# Altium footprint library QFP.PcbLib: 8 footprints
Each footprint in its own frame and in the unit in brackets; x right, y up, seen from the top. Pads: shape width x height; smd on the part's side, far side on the other; paste and mask are expansions set on the pad; w line width, h text height; cw(c..) or ccw(c..) is an arc to the next point about the centre after c.
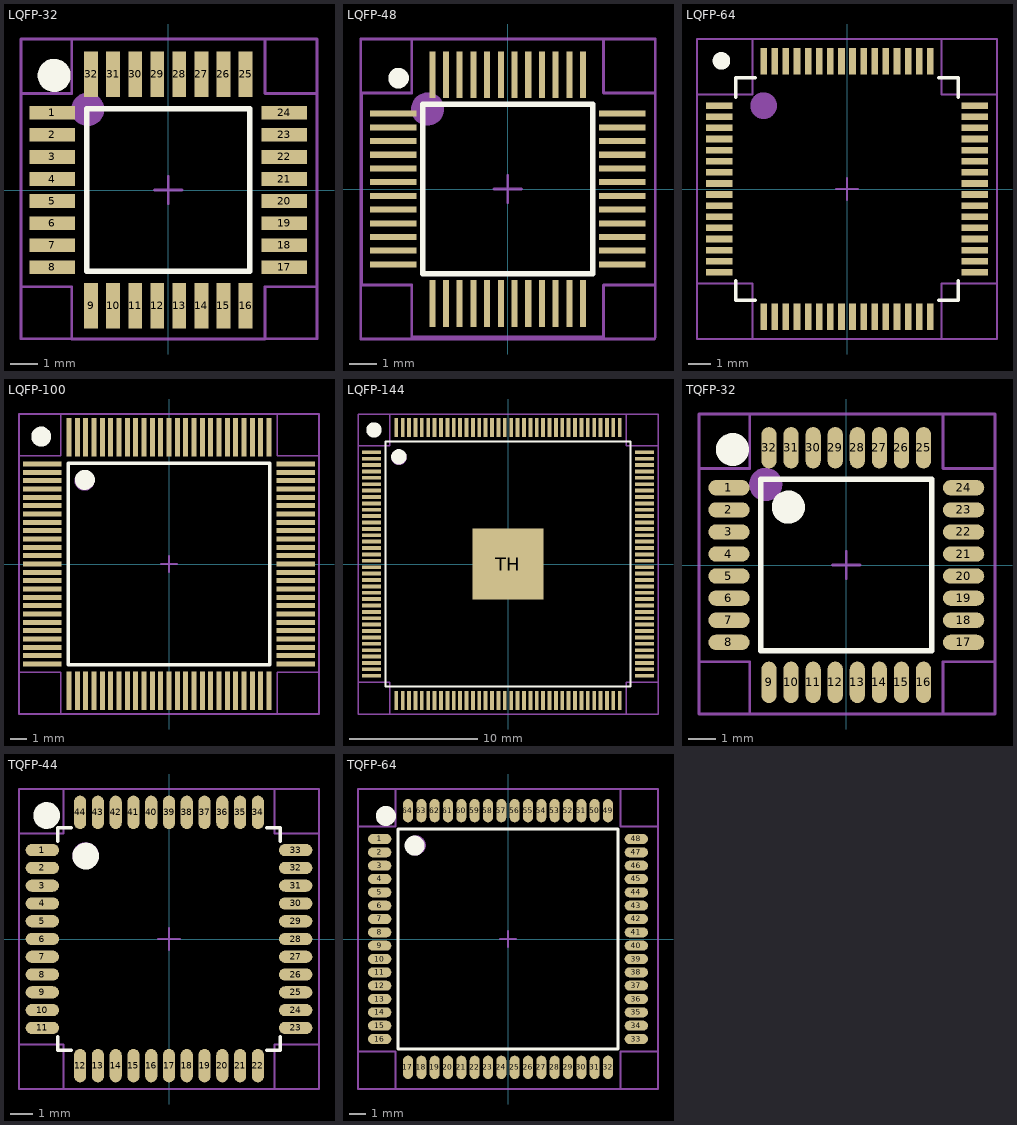
[diagram p0: the footprints below, top view; thin cyan lines are the x and y axes]

## LQFP-32 [mm] "Thin QFP, 32-Leads, Body 7x7mm, Pitch 0.8mm, IPC Medium Density"
height 1.6
pads (32):
  rect 1.65x0.5 smd: 1(-4.2,2.8) 2(-4.2,2) 3(-4.2,1.2) 4(-4.2,0.4) 5(-4.2,-0.4) 6(-4.2,-1.2) 7(-4.2,-2) 8(-4.2,-2.8) 17(4.2,-2.8) 18(4.2,-2) 19(4.2,-1.2) 20(4.2,-0.4) 21(4.2,0.4) 22(4.2,1.2) 23(4.2,2) 24(4.2,2.8)
  rect 0.5x1.65 smd: 9(-2.8,-4.2) 10(-2,-4.2) 11(-1.2,-4.2) 12(-0.4,-4.2) 13(0.4,-4.2) 14(1.2,-4.2) 15(2,-4.2) 16(2.8,-4.2) 25(2.8,4.2) 26(2,4.2) 27(1.2,4.2) 28(0.4,4.2) 29(-0.4,4.2) 30(-1.2,4.2) 31(-2,4.2) 32(-2.8,4.2)
Top Overlay:
  circle w0.6: c-4.135,4.154 r0.3
  lines w0.2: -2.95,-2.95 2.95,-2.95 2.95,2.95 -2.95,2.95 -2.95,-2.95
Top Assembly:
  circle w0.6: c-2.92,2.921 r0.3
  lines w0.1: -0.5,0 0.5,0 ; 0,-0.5 0,0.5 ; -3.038,-5.391 -3.038,-5.391 ; -3.038,-5.391 5.385,-5.391 5.385,3.5 5.385,5.472 -3.5,5.472 -5.334,5.472 -5.334,-5.391 -3.038,-5.391
Top Courtyard (Mech15):
  lines w0.1: -5.334,-3.5 -5.334,3.5 -3.5,3.5 -3.5,5.472 3.5,5.472 3.5,3.5 5.385,3.5 5.385,-3.5 3.5,-3.5 3.5,-5.397 -3.5,-5.397 -3.5,-4.77 -3.5,-3.5 -5.334,-3.5
3D body "TQFP32.step": height 1, standoff -0.15, extent -4.512,-4.512 4.512,4.512

## LQFP-48 [mm] "48-Pin Thin Quad Flat Pack 0.5 mm Pitch, IPC High Density"
height 1.6
pads (48):
  rect 1.7x0.22 smd mask+0.05: 1(-4.175,2.75) 2(-4.175,2.25) 3(-4.175,1.75) 4(-4.175,1.25) 5(-4.175,0.75) 6(-4.175,0.25) 7(-4.175,-0.25) 8(-4.175,-0.75) 9(-4.175,-1.25) 10(-4.175,-1.75) 11(-4.175,-2.25) 12(-4.175,-2.75)
  rect 0.22x1.7 smd mask+0.05: 13(-2.75,-4.175) 14(-2.25,-4.175) 15(-1.75,-4.175) 16(-1.25,-4.175) 17(-0.75,-4.175) 18(-0.25,-4.175) 19(0.25,-4.175) 20(0.75,-4.175) 21(1.25,-4.175) 23(2.25,-4.175) 24(2.75,-4.175) 37(2.75,4.175) 38(2.25,4.175) 39(1.75,4.175) 40(1.25,4.175) 41(0.75,4.175) 42(0.25,4.175) 43(-0.25,4.175) 44(-0.75,4.175) 45(-1.25,4.175) 46(-1.75,4.175) 47(-2.25,4.175) 48(-2.75,4.175)
  rect 0.22x1.7 smd paste+0 mask+0.05: 22(1.75,-4.175)
  rect 1.7x0.22 smd paste+0 mask+0.05: 25(4.175,-2.75) 26(4.175,-2.25) 27(4.175,-1.75) 28(4.175,-1.25) 29(4.175,-0.75) 30(4.175,-0.25) 31(4.175,0.25) 32(4.175,0.75) 33(4.175,1.25) 34(4.175,1.75) 35(4.175,2.25) 36(4.175,2.75)
Top Overlay:
  circle w0.5: c-3.982,4.044 r0.125
  lines w0.2: -3.1,-3.1 -3.1,3.1 3.1,3.1 3.1,-3.1 -3.1,-3.1
Top Assembly:
  circle w0.6: c-2.92,2.921 r0.3
  lines w0.1: -5.362,5.472 -5.362,5.398 -5.362,-5.472 -3.476,-5.472 3.524,-5.472 5.357,-5.472 ; -5.334,5.472 -3.5,5.472 3.5,5.472 5.385,5.472 5.385,-5.397 ; -0.5,0 0.5,0 ; 0,-0.5 0,0.5
Top Courtyard (Mech15):
  lines w0.1: -5.334,-3.5 -5.334,3.5 -3.5,3.5 -3.5,5.472 3.5,5.472 3.5,3.5 5.385,3.5 5.385,-3.5 3.5,-3.5 3.5,-5.397 -3.5,-5.397 -3.5,-4.77 -3.5,-3.5 -5.334,-3.5
3D body "LQFP48.step": height 1.5, standoff 0, extent -4.5,-4.5 4.5,4.5

## LQFP-64 [mm]
height 1.3
pads (64):
  rect 1.2x0.3 smd mask+0.05: 1(-5.75,3.75) 2(-5.75,3.25) 3(-5.75,2.75) 4(-5.75,2.25) 5(-5.75,1.75) 6(-5.75,1.25) 7(-5.75,0.75) 8(-5.75,0.25) 9(-5.75,-0.25) 10(-5.75,-0.75) 11(-5.75,-1.25) 12(-5.75,-1.75) 13(-5.75,-2.25) 14(-5.75,-2.75) 15(-5.75,-3.25) 16(-5.75,-3.75) 33(5.75,-3.75) 34(5.75,-3.25) 35(5.75,-2.75) 36(5.75,-2.25) 37(5.75,-1.75) 38(5.75,-1.25) 39(5.75,-0.75) 40(5.75,-0.25) 41(5.75,0.25) 42(5.75,0.75) 43(5.75,1.25) 44(5.75,1.75) 45(5.75,2.25) 46(5.75,2.75) 47(5.75,3.25) 48(5.75,3.75)
  rect 0.3x1.2 smd mask+0.05: 17(-3.75,-5.75) 18(-3.25,-5.75) 19(-2.75,-5.75) 20(-2.25,-5.75) 21(-1.75,-5.75) 22(-1.25,-5.75) 23(-0.75,-5.75) 24(-0.25,-5.75) 25(0.25,-5.75) 26(0.75,-5.75) 27(1.25,-5.75) 28(1.75,-5.75) 29(2.25,-5.75) 30(2.75,-5.75) 31(3.25,-5.75) 32(3.75,-5.75) 49(3.75,5.75) 50(3.25,5.75) 51(2.75,5.75) 52(2.25,5.75) 53(1.75,5.75) 54(1.25,5.75) 55(0.75,5.75) 56(0.25,5.75) 57(-0.25,5.75) 58(-0.75,5.75) 59(-1.25,5.75) 60(-1.75,5.75) 61(-2.25,5.75) 62(-2.75,5.75) 63(-3.25,5.75) 64(-3.75,5.75)
Top Overlay:
  circle w0.5: c-5.65,5.767 r0.145
  lines w0.15: -5,-4.125 -5,-5 -4.125,-5 ; -5,4.125 -5,5 -4.125,5 ; 4.125,-5 5,-5 5,-4.125 ; 4.125,5 5,5 5,4.125
Top Assembly:
  circle w0.6: c-3.75,3.75 r0.3
  lines w0.1: -0.5,0 0.5,0 ; 0,-0.5 0,0.5 ; -6.75,-6.75 4.25,-6.75 6.75,-6.75 6.75,6.75 -4.25,6.75 -6.75,6.75 -6.75,-6.75
Top Courtyard (Mech15):
  lines w0.1: -6.75,-4.25 -6.75,4.25 -4.25,4.25 -4.25,6.75 4.25,6.75 4.25,4.25 6.75,4.25 6.75,-4.25 5.52,-4.25 4.25,-4.25 4.25,-6.75 -4.25,-6.75 -4.25,-4.25 -6.75,-4.25
3D body "LQFP-64.STEP": height 1.56, standoff 0, extent -6,-6 6,6

## LQFP-100 [mm] "SQFP, 100-Leads, Body 16,7x16,7mm (max), Pitch 0,50mm, IPC Medium Density"
height 2.45
pads (100):
  rect 2.3x0.3 smd: 1(-7.6,6) 2(-7.6,5.5) 3(-7.6,5) 4(-7.6,4.5) 5(-7.6,4) 6(-7.6,3.5) 7(-7.6,3) 8(-7.6,2.5) 9(-7.6,2) 10(-7.6,1.5) 11(-7.6,1) 12(-7.6,0.5) 13(-7.6,0) 14(-7.6,-0.5) 15(-7.6,-1) 16(-7.6,-1.5) 17(-7.6,-2) 18(-7.6,-2.5) 19(-7.6,-3) 20(-7.6,-3.5) 21(-7.6,-4) 22(-7.6,-4.5) 23(-7.6,-5) 24(-7.6,-5.5) 25(-7.6,-6) 51(7.6,-6) 52(7.6,-5.5) 53(7.6,-5) 54(7.6,-4.5) 55(7.6,-4) 56(7.6,-3.5) 57(7.6,-3) 58(7.6,-2.5) 59(7.6,-2) 60(7.6,-1.5) 61(7.6,-1) 62(7.6,-0.5) 63(7.6,0) 64(7.6,0.5) 65(7.6,1) 66(7.6,1.5) 67(7.6,2) 68(7.6,2.5) 69(7.6,3) 70(7.6,3.5) 71(7.6,4) 72(7.6,4.5) 73(7.6,5) 74(7.6,5.5) 75(7.6,6)
  rect 0.3x2.3 smd: 26(-6,-7.6) 27(-5.5,-7.6) 28(-5,-7.6) 29(-4.5,-7.6) 30(-4,-7.6) 31(-3.5,-7.6) 32(-3,-7.6) 33(-2.5,-7.6) 34(-2,-7.6) 35(-1.5,-7.6) 36(-1,-7.6) 37(-0.5,-7.6) 38(0,-7.6) 39(0.5,-7.6) 40(1,-7.6) 41(1.5,-7.6) 42(2,-7.6) 43(2.5,-7.6) 44(3,-7.6) 45(3.5,-7.6) 46(4,-7.6) 47(4.5,-7.6) 48(5,-7.6) 49(5.5,-7.6) 50(6,-7.6) 76(6,7.6) 77(5.5,7.6) 78(5,7.6) 79(4.5,7.6) 80(4,7.6) 81(3.5,7.6) 82(3,7.6) 83(2.5,7.6) 84(2,7.6) 85(1.5,7.6) 86(1,7.6) 87(0.5,7.6) 88(0,7.6) 89(-0.5,7.6) 90(-1,7.6) 91(-1.5,7.6) 92(-2,7.6) 93(-2.5,7.6) 94(-3,7.6) 95(-3.5,7.6) 96(-4,7.6) 97(-4.5,7.6) 98(-5,7.6) 99(-5.5,7.6) 100(-6,7.6)
Top Overlay:
  circle w0.6: c-7.666,7.645 r0.3
  circle w0.6: c-5.05,5.05 r0.3
  lines w0.2: -6.05,-6.05 -6.05,6.05 6.05,6.05 6.05,-6.05 -6.05,-6.05
Top Assembly:
  circle w0.6: c-5.076,4.995 r0.3
  lines w0.1: -0.5,0 0.5,0 ; 0,-0.5 0,0.5 ; -9,-9 -9,-6.5 -9,9 -6.5,9 6.5,9 9,9 9,6.5 9,-9 6.5,-9 -6.5,-9 -9,-9
Top Courtyard (Mech15):
  lines w0.1: -9,-6.5 -9,6.5 -6.5,6.5 -6.5,9 6.5,9 6.5,6.5 9,6.5 9,-6.5 7.77,-6.5 6.5,-6.5 6.5,-9 -6.5,-9 -6.5,-6.5 -9,-6.5
3D body "LQFP100.STEP": height 1.62, standoff -0.01, extent -8.072,-8.072 8.072,8.072

## LQFP-144 [mm]
pads (145):
  rect 1.5x0.3 smd: 1(-10.7,8.75) 2(-10.7,8.25) 3(-10.7,7.75) 4(-10.7,7.25) 5(-10.7,6.75) 6(-10.7,6.25) 7(-10.7,5.75) 8(-10.7,5.25) 9(-10.7,4.75) 10(-10.7,4.25) 11(-10.7,3.75) 12(-10.7,3.25) 13(-10.7,2.75) 14(-10.7,2.25) 15(-10.7,1.75) 16(-10.7,1.25) 17(-10.7,0.75) 18(-10.7,0.25) 19(-10.7,-0.25) 20(-10.7,-0.75) 21(-10.7,-1.25) 22(-10.7,-1.75) 23(-10.7,-2.25) 24(-10.7,-2.75) 25(-10.7,-3.25) 26(-10.7,-3.75) 27(-10.7,-4.25) 28(-10.7,-4.75) 29(-10.7,-5.25) 30(-10.7,-5.75) 31(-10.7,-6.25) 32(-10.7,-6.75) 33(-10.7,-7.25) 34(-10.7,-7.75) 35(-10.7,-8.25) 36(-10.7,-8.75) 73(10.7,-8.75) 74(10.7,-8.25) 75(10.7,-7.75) 76(10.7,-7.25) 77(10.7,-6.75) 78(10.7,-6.25) 79(10.7,-5.75) 80(10.7,-5.25) 81(10.7,-4.75) 82(10.7,-4.25) 83(10.7,-3.75) 84(10.7,-3.25) 85(10.7,-2.75) 86(10.7,-2.25) 87(10.7,-1.75) 88(10.7,-1.25) 89(10.7,-0.75) 90(10.7,-0.25) 91(10.7,0.25) 92(10.7,0.75) 93(10.7,1.25) 94(10.7,1.75) 95(10.7,2.25) 96(10.7,2.75) 97(10.7,3.25) 98(10.7,3.75) 99(10.7,4.25) 100(10.7,4.75) 101(10.7,5.25) 102(10.7,5.75) 103(10.7,6.25) 104(10.7,6.75) 105(10.7,7.25) 106(10.7,7.75) 107(10.7,8.25) 108(10.7,8.75)
  rect 0.3x1.5 smd: 37(-8.75,-10.7) 38(-8.25,-10.7) 39(-7.75,-10.7) 40(-7.25,-10.7) 41(-6.75,-10.7) 42(-6.25,-10.7) 43(-5.75,-10.7) 44(-5.25,-10.7) 45(-4.75,-10.7) 46(-4.25,-10.7) 47(-3.75,-10.7) 48(-3.25,-10.7) 49(-2.75,-10.7) 50(-2.25,-10.7) 51(-1.75,-10.7) 52(-1.25,-10.7) 53(-0.75,-10.7) 54(-0.25,-10.7) 55(0.25,-10.7) 56(0.75,-10.7) 57(1.25,-10.7) 58(1.75,-10.7) 59(2.25,-10.7) 60(2.75,-10.7) 61(3.25,-10.7) 62(3.75,-10.7) 63(4.25,-10.7) 64(4.75,-10.7) 65(5.25,-10.7) 66(5.75,-10.7) 67(6.25,-10.7) 68(6.75,-10.7) 69(7.25,-10.7) 70(7.75,-10.7) 71(8.25,-10.7) 72(8.75,-10.7) 109(8.75,10.7) 110(8.25,10.7) 111(7.75,10.7) 112(7.25,10.7) 113(6.75,10.7) 114(6.25,10.7) 115(5.75,10.7) 116(5.25,10.7) 117(4.75,10.7) 118(4.25,10.7) 119(3.75,10.7) 120(3.25,10.7) 121(2.75,10.7) 122(2.25,10.7) 123(1.75,10.7) 124(1.25,10.7) 125(0.75,10.7) 126(0.25,10.7) 127(-0.25,10.7) 128(-0.75,10.7) 129(-1.25,10.7) 130(-1.75,10.7) 131(-2.25,10.7) 132(-2.75,10.7) 133(-3.25,10.7) 134(-3.75,10.7) 135(-4.25,10.7) 136(-4.75,10.7) 137(-5.25,10.7) 138(-5.75,10.7) 139(-6.25,10.7) 140(-6.75,10.7) 141(-7.25,10.7) 142(-7.75,10.7) 143(-8.25,10.7) 144(-8.75,10.7)
  rect 5.55x5.55 smd paste-4: TH(0,0)
Top Overlay:
  circle w0.6: c-8.549,8.393 r0.3
  circle w0.6: c-10.5,10.5 r0.3
  lines w0.127: -9.6,-9.6 9.6,-9.6 9.6,9.6 -9.6,9.6 -9.6,-9.6
Top Paste:
  region: 1.999,-2.013 0.24,-2.013 0.24,-0.25 1.999,-0.25
  region: -0.361,-2.014 -2.124,-2.014 -2.124,-0.25 -0.361,-0.25
  region: 1.999,0.35 0.239,0.35 0.239,2.11 1.999,2.11
  region: -0.361,0.35 -2.124,0.35 -2.124,2.11 -0.361,2.11
Top Assembly:
  circle w0.6: c-8.542,8.355 r0.3
  lines w0.1: -0.5,0 0.5,0 ; 0,-0.5 0,0.5 ; -11.75,-11.75 -11.75,11.75 -9.25,11.75 9.25,11.75 11.75,11.75 11.75,-11.75 9.25,-11.75 -9.25,-11.75 -11.75,-11.75
Top Courtyard (Mech15):
  lines w0.1: -11.75,-9.25 -9.25,-9.25 -9.25,-11.75 9.25,-11.75 9.25,-9.25 10.52,-9.25 11.75,-9.25 11.75,9.25 9.25,9.25 9.25,11.75 -9.25,11.75 -9.25,9.25 -11.75,9.25 -11.75,-9.25
3D body "User Library-TQFP144_0.STEP": height 1.6, standoff 0, extent -11,-11 11,11

## TQFP-32 [mm] "TQFP, 32-Leads, Body 7,00x7,00mm, Pitch 0,80mm, IPC Medium Density"
height 1.2
pads (32):
  oval 1.5x0.55 smd: 1(-4.25,2.8) 2(-4.25,2) 3(-4.25,1.2) 4(-4.25,0.4) 5(-4.25,-0.4) 6(-4.25,-1.2) 7(-4.25,-2) 8(-4.25,-2.8) 17(4.25,-2.8) 18(4.25,-2) 19(4.25,-1.2) 20(4.25,-0.4) 21(4.25,0.4) 22(4.25,1.2) 23(4.25,2) 24(4.25,2.8)
  oval 0.55x1.5 smd: 9(-2.8,-4.25) 10(-2,-4.25) 11(-1.2,-4.25) 12(-0.4,-4.25) 13(0.4,-4.25) 14(1.2,-4.25) 15(2,-4.25) 16(2.8,-4.25) 25(2.8,4.25) 26(2,4.25) 27(1.2,4.25) 28(0.4,4.25) 29(-0.4,4.25) 30(-1.2,4.25) 31(-2,4.25) 32(-2.8,4.25)
Top Overlay:
  circle w0.6: c-4.123,4.187 r0.3
  circle w0.6: c-2.1,2.1 r0.3
  lines w0.2: -3.1,-3.1 3.1,-3.1 3.1,3.1 -3.1,3.1 -3.1,-3.1
Top Assembly:
  circle w0.6: c-2.92,2.921 r0.3
  lines w0.1: -0.5,0 0.5,0 ; 0,-0.5 0,0.5 ; -5.334,-5.397 -5.334,-3.5 -5.334,5.472 -3.5,5.472 5.385,5.472 5.385,3.5 5.385,-5.397 3.5,-5.397 -3.5,-5.397 -5.334,-5.397
Top Courtyard (Mech15):
  lines w0.1: -5.334,-3.5 -3.5,-3.5 -3.5,-4.77 -3.5,-5.397 3.5,-5.397 3.5,-3.5 5.385,-3.5 5.385,3.5 3.5,3.5 3.5,5.472 -3.5,5.472 -3.5,3.5 -5.334,3.5 -5.334,-3.5
3D body "TQFP32.step": height 1, standoff -0.15, extent -4.512,-4.512 4.512,4.512

## TQFP-44 [mm]
pads (44):
  oval 1.5x0.55 smd mask+0.05: 1(-5.7,4) 2(-5.7,3.2) 3(-5.7,2.4) 4(-5.7,1.6) 5(-5.7,0.8) 6(-5.7,0) 7(-5.7,-0.8) 8(-5.7,-1.6) 9(-5.7,-2.4) 10(-5.7,-3.2) 11(-5.7,-4) 23(5.7,-4) 24(5.7,-3.2) 25(5.7,-2.4) 26(5.7,-1.6) 27(5.7,-0.8) 28(5.7,0) 29(5.7,0.8) 30(5.7,1.6) 31(5.7,2.4) 32(5.7,3.2) 33(5.7,4)
  oval 0.55x1.5 smd mask+0.05: 12(-4,-5.7) 13(-3.2,-5.7) 14(-2.4,-5.7) 15(-1.6,-5.7) 16(-0.8,-5.7) 17(0,-5.7) 18(0.8,-5.7) 19(1.6,-5.7) 20(2.4,-5.7) 21(3.2,-5.7) 22(4,-5.7) 34(4,5.7) 35(3.2,5.7) 36(2.4,5.7) 37(1.6,5.7) 38(0.8,5.7) 39(0,5.7) 40(-0.8,5.7) 41(-1.6,5.7) 42(-2.4,5.7) 43(-3.2,5.7) 44(-4,5.7)
Top Overlay:
  circle w0.6: c-5.505,5.557 r0.3
  circle w0.6: c-3.746,3.732 r0.3
  lines w0.15: -5,-4.4 -5,-5 -4.4,-5 ; -5,4.4 -5,5 -4.4,5 ; 4.4,-5 5,-5 5,-4.4 ; 4.4,5 5,5 5,4.4
Top Assembly:
  circle w0.6: c-3.75,3.75 r0.3
  lines w0.1: -0.5,0 0.5,0 ; 0,-0.5 0,0.5 ; 4.75,-6.75 6.75,-6.75 ; 4.75,-6.75 6.75,-6.75 ; 4.75,-6.75 -4.75,-6.75 -6.75,-6.75 -6.75,6.75 -4.75,6.75 4.75,6.75 6.75,6.75 6.75,-6.75
Top Courtyard (Mech15):
  lines w0.1: -6.75,-4.75 -4.75,-4.75 -4.75,-6.75 4.75,-6.75 4.75,-4.75 5.02,-4.75 6.75,-4.75 6.75,4.75 4.75,4.75 4.75,6.75 -4.75,6.75 -4.75,4.75 -6.75,4.75 -6.75,-4.75
3D body "TQFP-44.STEP": height 1.1, standoff 0, extent -6,-6 6,6

## TQFP-64 [mm] "TQFP, 64-Leads, Body 14,00x14,00mm, Pitch 0,80mm, IPC Medium Density"
height 1.2
pads (64):
  oval 1.4x0.6 smd: 1(-7.7,6) 2(-7.7,5.2) 3(-7.7,4.4) 4(-7.7,3.6) 5(-7.7,2.8) 6(-7.7,2) 7(-7.7,1.2) 8(-7.7,0.4) 9(-7.7,-0.4) 10(-7.7,-1.2) 11(-7.7,-2) 12(-7.7,-2.8) 13(-7.7,-3.6) 14(-7.7,-4.4) 15(-7.7,-5.2) 16(-7.7,-6) 33(7.7,-6) 34(7.7,-5.2) 35(7.7,-4.4) 36(7.7,-3.6) 37(7.7,-2.8) 38(7.7,-2) 39(7.7,-1.2) 40(7.7,-0.4) 41(7.7,0.4) 42(7.7,1.2) 43(7.7,2) 44(7.7,2.8) 45(7.7,3.6) 46(7.7,4.4) 47(7.7,5.2) 48(7.7,6)
  oval 0.6x1.4 smd: 17(-6,-7.7) 18(-5.2,-7.7) 19(-4.4,-7.7) 20(-3.6,-7.7) 21(-2.8,-7.7) 22(-2,-7.7) 23(-1.2,-7.7) 24(-0.4,-7.7) 25(0.4,-7.7) 26(1.2,-7.7) 27(2,-7.7) 28(2.8,-7.7) 29(3.6,-7.7) 30(4.4,-7.7) 31(5.2,-7.7) 32(6,-7.7) 49(6,7.7) 50(5.2,7.7) 51(4.4,7.7) 52(3.6,7.7) 53(2.8,7.7) 54(2,7.7) 55(1.2,7.7) 56(0.4,7.7) 57(-0.4,7.7) 58(-1.2,7.7) 59(-2,7.7) 60(-2.8,7.7) 61(-3.6,7.7) 62(-4.4,7.7) 63(-5.2,7.7) 64(-6,7.7)
Top Overlay:
  circle w0.6: c-7.328,7.383 r0.3
  circle w0.6: c-5.6,5.6 r0.3
  lines w0.2: -6.6,-6.6 6.6,-6.6 6.6,6.6 -6.6,6.6 -6.6,-6.6
Top Assembly:
  circle w0.6: c-5.534,5.621 r0.3
  lines w0.1: -0.5,0 0.5,0 ; 0,-0.5 0,0.5 ; -9,-9 -9,9 -6.75,9 6.75,9 9,9 9,-9 6.75,-9 -6.75,-9 -9,-9
Top Courtyard (Mech15):
  lines w0.1: -9,-6.75 -6.75,-6.75 -6.75,-9 6.75,-9 6.75,-6.75 8.02,-6.75 9,-6.75 9,6.75 6.75,6.75 6.75,9 -6.75,9 -6.75,6.75 -9,6.75 -9,-6.75
3D body "TQFP80P1600X1600X120-64N.step": height 1.2, standoff 0, extent -8,-8 8,8